# EAGLE library part MP7770 (library wheat)
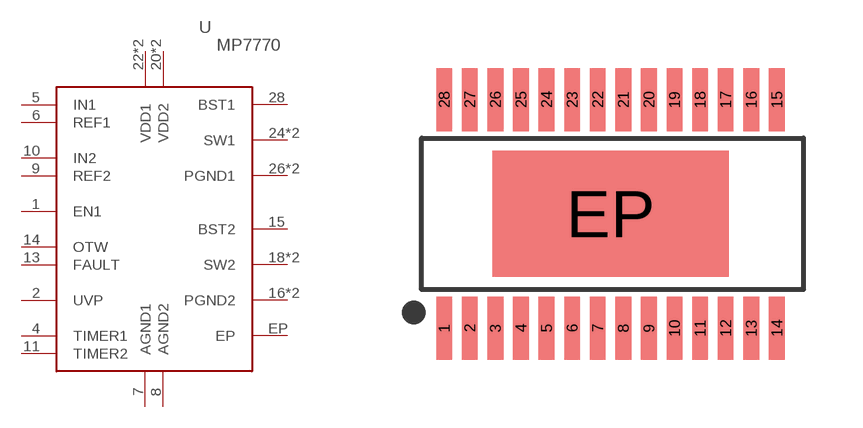
[diagram p232: symbol with the pads of TSSOP28_EP_MPS; footprint TSSOP28_EP_MPS]

Designator prefix -

## MP7770GF  [TSSOP28_EP_MPS]
1  EN1
2  UVP
4  TIMER1
5  IN1
6  REF1
7  AGND1
8  AGND2
9  REF2
10  IN2
11  TIMER2
13  FAULT
14  OTW
15  BST2
16  PGND2
17  PGND2
18  SW2
19  SW2
20  VDD2
21  VDD2
22  VDD1
23  VDD1
24  SW1
25  SW1
26  PGND1
27  PGND1
28  BST1
EP  EP

## Footprint TSSOP28_EP_MPS (pad centres in mm)
smd 0.4 x 1.6: 1 -4.225,-2.9; 2 -3.575,-2.9; 3 -2.925,-2.9; 4 -2.275,-2.9; 5 -1.625,-2.9; 6 -0.975,-2.9; 7 -0.325,-2.9; 8 0.325,-2.9; 9 0.975,-2.9; 10 1.625,-2.9; 11 2.275,-2.9; 12 2.925,-2.9; 13 3.575,-2.9; 14 4.225,-2.9; 15 4.225,2.9; 16 3.575,2.9; 17 2.925,2.9; 18 2.275,2.9; 19 1.625,2.9; 20 0.975,2.9; 21 0.325,2.9; 22 -0.325,2.9; 23 -0.975,2.9; 24 -1.625,2.9; 25 -2.275,2.9; 26 -2.925,2.9; 27 -3.575,2.9; 28 -4.225,2.9
smd 6 x 3.2: EP 0,0